# Altium schematic symbol library SN65HVD232D.SchLib: 1 symbol
Pins are listed as number, name and electrical type; pins without a type are passive.

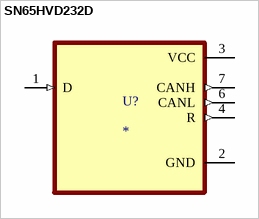
[diagram p0: symbol SN65HVD232D]

## SN65HVD232D
designator U?
MP: SN65HVD232D; MF: {'manufacturer': u'Texas Instruments'}; Availability: Unavailable; Package: None; Price: None; Value: *
footprint SOIC127P599X175-8N
pins: 1 D (in), 2 GND (power), 3 VCC (power), 4 R (out), 6 CANL (out), 7 CANH (out)